# Altium integrated library Microchip Power Management Line Regulator.IntLib: 1169 symbols (part 23 of 31)
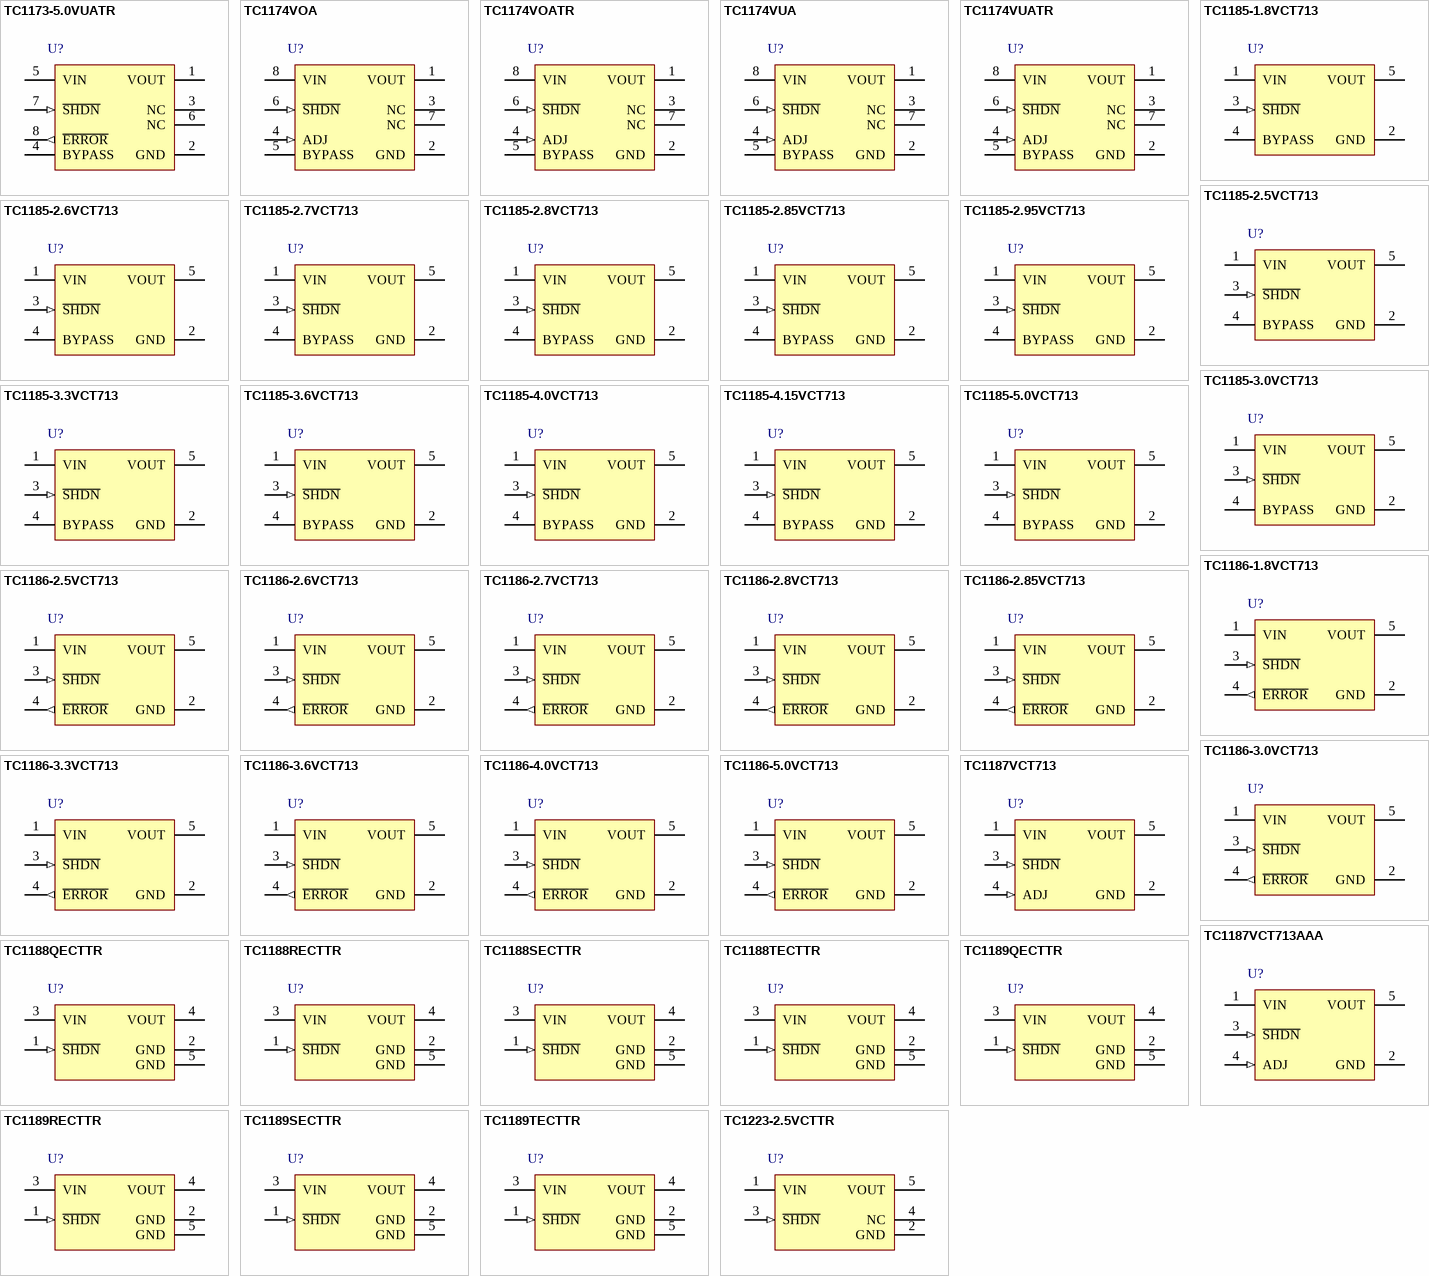
[diagram p51: symbols TC1173-5.0VUATR to TC1223-2.5VCTTR]

## TC1189QECTTR
designator U?
MAX8863/64 Pin Compatible, Low Dropout, 120 mA Linear Regulators, 5-Pin SOT-23, Industrial Temperature, Tape and Reel; Manufacturer: Microchip; PartNumber: TC1189QECTTR; DatasheetVersion: revB, 2002; PackageVersion: revBB, Aug-2009; PackageReference: SOT-23-CT5; PackageDescription: 5-Lead Plastic Small Outline Transistor (CT) [SOT-23]; Supplier 1: Digi-Key; Supplier Part Number 1: TC1189QECTTR-ND; Supplier 2: Mouser; Supplier Part Number 2: 579-TC1189QECTTR; Mounting Technology: Surface Mount; Code_IPC: SOT23-5; ComponentLink1Description: Manufacturer URL; ComponentLink1URL: http://www.microchip.com/; ComponentLink2Description: Datasheet; ComponentLink2URL: http://ww1.microchip.com/downloads/en/DeviceDoc/21364b.pdf; ComponentLink3Description: Package Specification; ComponentLink3URL: http://www.microchip.com/stellent/groups/techpub_sg/documents/packagingspec/en012702.pdf
footprint SOT-23-CT5_N (SOT23, 5-Leads, Body 2.9x1.6mm, Pitch 0.95mm, Lead Span 2.7mm, IPC Medium Density)
footprint SOT-23-CT5_L (SOT23, 5-Leads, Body 2.9x1.6mm, Pitch 0.95mm, Lead Span 2.7mm, IPC High Density)
footprint SOT-23-CT5_M (SOT23, 5-Leads, Body 2.9x1.6mm, Pitch 0.95mm, Lead Span 2.7mm, IPC Low Density)
pins: 1 ~{SHDN} (in), 2 GND (power), 3 VIN (power), 4 VOUT (power), 5 GND (power)

## TC1189RECTTR
designator U?
MAX8863/64 Pin Compatible, Low Dropout, 120 mA Linear Regulators, 5-Pin SOT-23, Industrial Temperature, Tape and Reel; Manufacturer: Microchip; PartNumber: TC1189RECTTR; DatasheetVersion: revB, 2002; PackageVersion: revBB, Aug-2009; PackageReference: SOT-23-CT5; PackageDescription: 5-Lead Plastic Small Outline Transistor (CT) [SOT-23]; Supplier 1: Digi-Key; Supplier Part Number 1: TC1189RECTTR-ND; Supplier 2: Mouser; Supplier Part Number 2: 579-TC1189RECTTR; Mounting Technology: Surface Mount; Code_IPC: SOT23-5; ComponentLink1Description: Manufacturer URL; ComponentLink1URL: http://www.microchip.com/; ComponentLink2Description: Datasheet; ComponentLink2URL: http://ww1.microchip.com/downloads/en/DeviceDoc/21364b.pdf; ComponentLink3Description: Package Specification; ComponentLink3URL: http://www.microchip.com/stellent/groups/techpub_sg/documents/packagingspec/en012702.pdf
footprint SOT-23-CT5_N (SOT23, 5-Leads, Body 2.9x1.6mm, Pitch 0.95mm, Lead Span 2.7mm, IPC Medium Density)
footprint SOT-23-CT5_L (SOT23, 5-Leads, Body 2.9x1.6mm, Pitch 0.95mm, Lead Span 2.7mm, IPC High Density)
footprint SOT-23-CT5_M (SOT23, 5-Leads, Body 2.9x1.6mm, Pitch 0.95mm, Lead Span 2.7mm, IPC Low Density)
pins: 1 ~{SHDN} (in), 2 GND (power), 3 VIN (power), 4 VOUT (power), 5 GND (power)

## TC1189SECTTR
designator U?
MAX8863/64 Pin Compatible, Low Dropout, 120 mA Linear Regulators, 5-Pin SOT-23, Industrial Temperature, Tape and Reel; Manufacturer: Microchip; PartNumber: TC1189SECTTR; DatasheetVersion: revB, 2002; PackageVersion: revBB, Aug-2009; PackageReference: SOT-23-CT5; PackageDescription: 5-Lead Plastic Small Outline Transistor (CT) [SOT-23]; Supplier 1: Digi-Key; Supplier Part Number 1: TC1189SECTTR-ND; Supplier 2: Mouser; Supplier Part Number 2: 579-TC1189SECTTR; Mounting Technology: Surface Mount; Code_IPC: SOT23-5; ComponentLink1Description: Manufacturer URL; ComponentLink1URL: http://www.microchip.com/; ComponentLink2Description: Datasheet; ComponentLink2URL: http://ww1.microchip.com/downloads/en/DeviceDoc/21364b.pdf; ComponentLink3Description: Package Specification; ComponentLink3URL: http://www.microchip.com/stellent/groups/techpub_sg/documents/packagingspec/en012702.pdf
footprint SOT-23-CT5_N (SOT23, 5-Leads, Body 2.9x1.6mm, Pitch 0.95mm, Lead Span 2.7mm, IPC Medium Density)
footprint SOT-23-CT5_L (SOT23, 5-Leads, Body 2.9x1.6mm, Pitch 0.95mm, Lead Span 2.7mm, IPC High Density)
footprint SOT-23-CT5_M (SOT23, 5-Leads, Body 2.9x1.6mm, Pitch 0.95mm, Lead Span 2.7mm, IPC Low Density)
pins: 1 ~{SHDN} (in), 2 GND (power), 3 VIN (power), 4 VOUT (power), 5 GND (power)

## TC1189TECTTR
designator U?
MAX8863/64 Pin Compatible, Low Dropout, 120 mA Linear Regulators, 5-Pin SOT-23, Industrial Temperature, Tape and Reel; Manufacturer: Microchip; PartNumber: TC1189TECTTR; DatasheetVersion: revB, 2002; PackageVersion: revBB, Aug-2009; PackageReference: SOT-23-CT5; PackageDescription: 5-Lead Plastic Small Outline Transistor (CT) [SOT-23]; Supplier 1: Digi-Key; Supplier Part Number 1: TC1189TECTTR-ND; Supplier 2: Mouser; Supplier Part Number 2: 579-TC1189TECTTR; Mounting Technology: Surface Mount; Code_IPC: SOT23-5; ComponentLink1Description: Manufacturer URL; ComponentLink1URL: http://www.microchip.com/; ComponentLink2Description: Datasheet; ComponentLink2URL: http://ww1.microchip.com/downloads/en/DeviceDoc/21364b.pdf; ComponentLink3Description: Package Specification; ComponentLink3URL: http://www.microchip.com/stellent/groups/techpub_sg/documents/packagingspec/en012702.pdf
footprint SOT-23-CT5_N (SOT23, 5-Leads, Body 2.9x1.6mm, Pitch 0.95mm, Lead Span 2.7mm, IPC Medium Density)
footprint SOT-23-CT5_L (SOT23, 5-Leads, Body 2.9x1.6mm, Pitch 0.95mm, Lead Span 2.7mm, IPC High Density)
footprint SOT-23-CT5_M (SOT23, 5-Leads, Body 2.9x1.6mm, Pitch 0.95mm, Lead Span 2.7mm, IPC Low Density)
pins: 1 ~{SHDN} (in), 2 GND (power), 3 VIN (power), 4 VOUT (power), 5 GND (power)

## TC1223-2.5VCTTR
designator U?
50mA and 100mA CMOS LDOs with Shutdown, 5-Pin SOT-23, Extended Temperature, Tape and Reel; Manufacturer: Microchip; PartNumber: TC1223-2.5VCTTR; DatasheetVersion: revB, 2002; PackageVersion: revBB, Aug-2009; PackageReference: SOT-23-CT5; PackageDescription: 5-Lead Plastic Small Outline Transistor (CT) [SOT-23]; Supplier 1: Digi-Key; Supplier Part Number 1: TC1223-2.5VCTTR-ND; Supplier 2: Mouser; Supplier Part Number 2: 579-TC1223-2.5VCTTR; Mounting Technology: Surface Mount; Code_IPC: SOT23-5; ComponentLink1Description: Manufacturer URL; ComponentLink1URL: http://www.microchip.com/; ComponentLink2Description: Datasheet; ComponentLink2URL: http://ww1.microchip.com/downloads/en/DeviceDoc/21368b.pdf; ComponentLink3Description: Package Specification; ComponentLink3URL: http://www.microchip.com/stellent/groups/techpub_sg/documents/packagingspec/en012702.pdf
footprint SOT-23-CT5_N (SOT23, 5-Leads, Body 2.9x1.6mm, Pitch 0.95mm, Lead Span 2.7mm, IPC Medium Density)
footprint SOT-23-CT5_L (SOT23, 5-Leads, Body 2.9x1.6mm, Pitch 0.95mm, Lead Span 2.7mm, IPC High Density)
footprint SOT-23-CT5_M (SOT23, 5-Leads, Body 2.9x1.6mm, Pitch 0.95mm, Lead Span 2.7mm, IPC Low Density)
pins: 1 VIN (power), 2 GND (power), 3 ~{SHDN} (in), 4 NC, 5 VOUT (power)

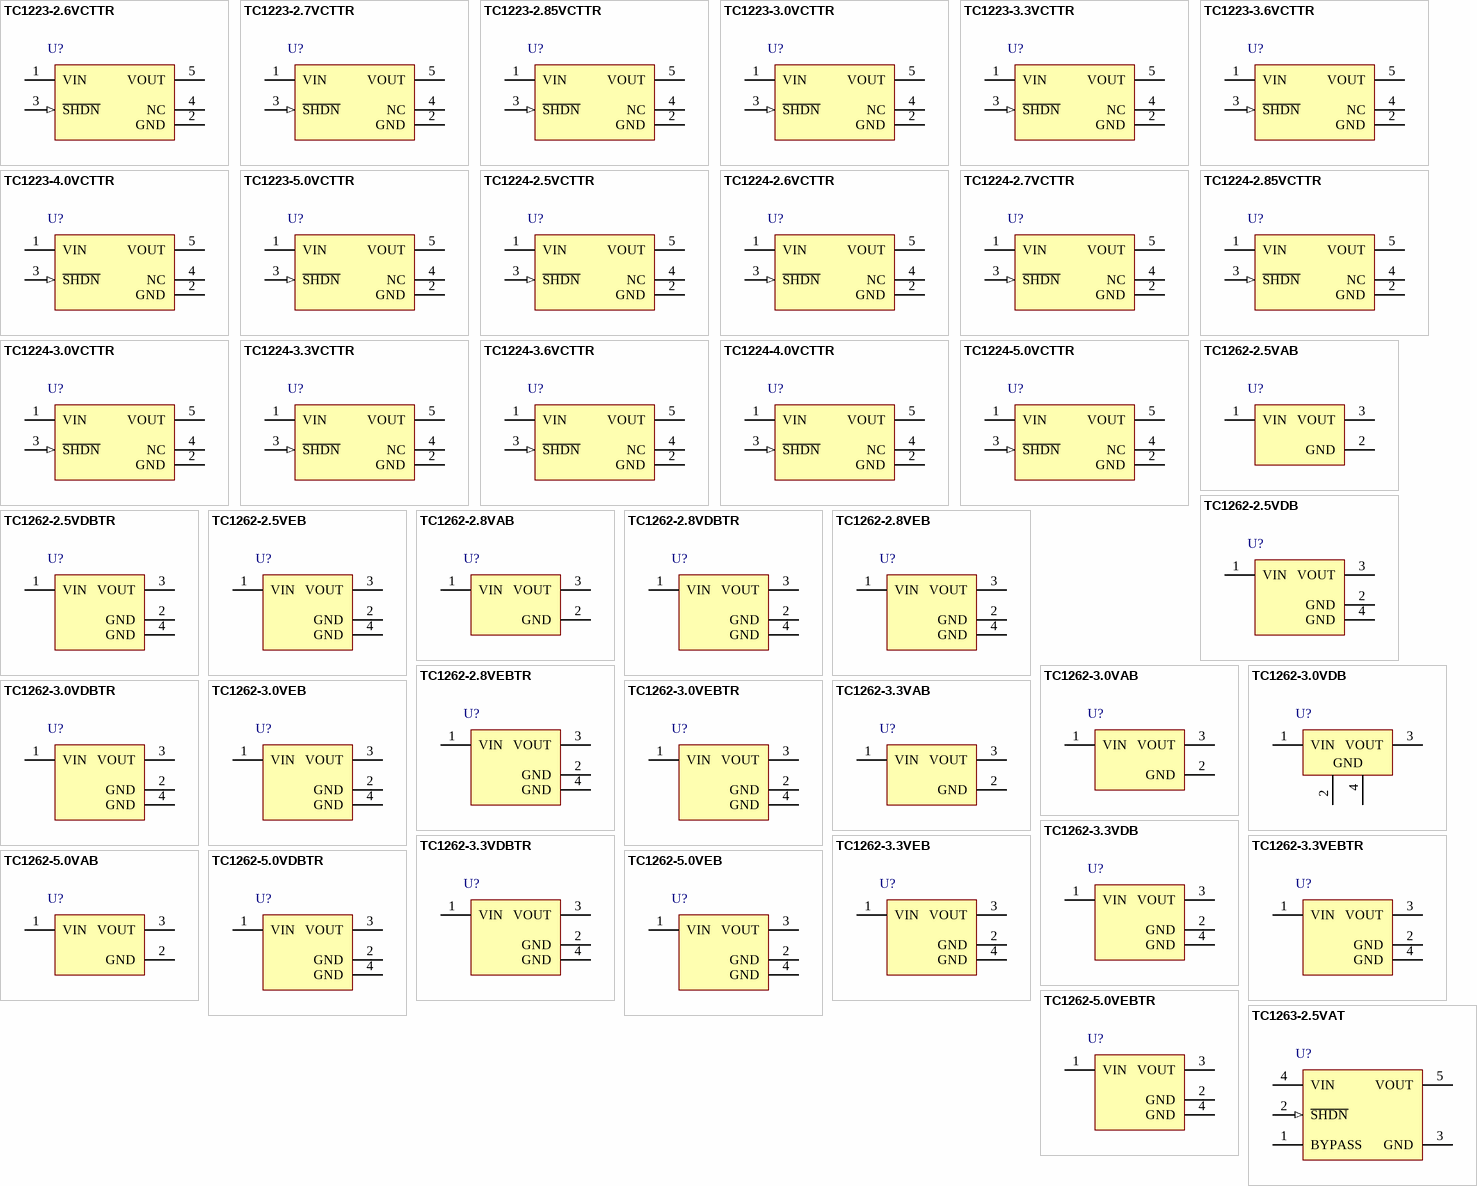
[diagram p21: symbols TC1223-2.6VCTTR to TC1263-2.5VAT]

## TC1223-2.6VCTTR
designator U?
50mA and 100mA CMOS LDOs with Shutdown, 5-Pin SOT-23, Extended Temperature, Tape and Reel; Manufacturer: Microchip; PartNumber: TC1223-2.6VCTTR; DatasheetVersion: revB, 2002; PackageVersion: revBB, Aug-2009; PackageReference: SOT-23-CT5; PackageDescription: 5-Lead Plastic Small Outline Transistor (CT) [SOT-23]; Supplier 1: Digi-Key; Supplier Part Number 1: TC1223-2.6VCTTR-ND; Supplier 2: Mouser; Supplier Part Number 2: 579-TC1223-2.6VCTTR; Mounting Technology: Surface Mount; Code_IPC: SOT23-5; ComponentLink1Description: Manufacturer URL; ComponentLink1URL: http://www.microchip.com/; ComponentLink2Description: Datasheet; ComponentLink2URL: http://ww1.microchip.com/downloads/en/DeviceDoc/21368b.pdf; ComponentLink3Description: Package Specification; ComponentLink3URL: http://www.microchip.com/stellent/groups/techpub_sg/documents/packagingspec/en012702.pdf
footprint SOT-23-CT5_N (SOT23, 5-Leads, Body 2.9x1.6mm, Pitch 0.95mm, Lead Span 2.7mm, IPC Medium Density)
footprint SOT-23-CT5_L (SOT23, 5-Leads, Body 2.9x1.6mm, Pitch 0.95mm, Lead Span 2.7mm, IPC High Density)
footprint SOT-23-CT5_M (SOT23, 5-Leads, Body 2.9x1.6mm, Pitch 0.95mm, Lead Span 2.7mm, IPC Low Density)
pins: 1 VIN (power), 2 GND (power), 3 ~{SHDN} (in), 4 NC, 5 VOUT (power)

## TC1223-2.7VCTTR
designator U?
50mA and 100mA CMOS LDOs with Shutdown, 5-Pin SOT-23, Extended Temperature, Tape and Reel; Manufacturer: Microchip; PartNumber: TC1223-2.7VCTTR; DatasheetVersion: revB, 2002; PackageVersion: revBB, Aug-2009; PackageReference: SOT-23-CT5; PackageDescription: 5-Lead Plastic Small Outline Transistor (CT) [SOT-23]; Supplier 1: Digi-Key; Supplier Part Number 1: TC1223-2.7VCTTR-ND; Supplier 2: Mouser; Supplier Part Number 2: 579-TC1223-2.7VCTTR; Mounting Technology: Surface Mount; Code_IPC: SOT23-5; ComponentLink1Description: Manufacturer URL; ComponentLink1URL: http://www.microchip.com/; ComponentLink2Description: Datasheet; ComponentLink2URL: http://ww1.microchip.com/downloads/en/DeviceDoc/21368b.pdf; ComponentLink3Description: Package Specification; ComponentLink3URL: http://www.microchip.com/stellent/groups/techpub_sg/documents/packagingspec/en012702.pdf
footprint SOT-23-CT5_N (SOT23, 5-Leads, Body 2.9x1.6mm, Pitch 0.95mm, Lead Span 2.7mm, IPC Medium Density)
footprint SOT-23-CT5_L (SOT23, 5-Leads, Body 2.9x1.6mm, Pitch 0.95mm, Lead Span 2.7mm, IPC High Density)
footprint SOT-23-CT5_M (SOT23, 5-Leads, Body 2.9x1.6mm, Pitch 0.95mm, Lead Span 2.7mm, IPC Low Density)
pins: 1 VIN (power), 2 GND (power), 3 ~{SHDN} (in), 4 NC, 5 VOUT (power)

## TC1223-2.85VCTTR
designator U?
50mA and 100mA CMOS LDOs with Shutdown, 5-Pin SOT-23, Extended Temperature, Tape and Reel; Manufacturer: Microchip; PartNumber: TC1223-2.85VCTTR; DatasheetVersion: revB, 2002; PackageVersion: revBB, Aug-2009; PackageReference: SOT-23-CT5; PackageDescription: 5-Lead Plastic Small Outline Transistor (CT) [SOT-23]; Supplier 1: Digi-Key; Supplier Part Number 1: TC1223-2.85VCTTR-ND; Supplier 2: Mouser; Supplier Part Number 2: 579-TC1223-2.85VCTTR; Mounting Technology: Surface Mount; Code_IPC: SOT23-5; ComponentLink1Description: Manufacturer URL; ComponentLink1URL: http://www.microchip.com/; ComponentLink2Description: Datasheet; ComponentLink2URL: http://ww1.microchip.com/downloads/en/DeviceDoc/21368b.pdf; ComponentLink3Description: Package Specification; ComponentLink3URL: http://www.microchip.com/stellent/groups/techpub_sg/documents/packagingspec/en012702.pdf
footprint SOT-23-CT5_N (SOT23, 5-Leads, Body 2.9x1.6mm, Pitch 0.95mm, Lead Span 2.7mm, IPC Medium Density)
footprint SOT-23-CT5_L (SOT23, 5-Leads, Body 2.9x1.6mm, Pitch 0.95mm, Lead Span 2.7mm, IPC High Density)
footprint SOT-23-CT5_M (SOT23, 5-Leads, Body 2.9x1.6mm, Pitch 0.95mm, Lead Span 2.7mm, IPC Low Density)
pins: 1 VIN (power), 2 GND (power), 3 ~{SHDN} (in), 4 NC, 5 VOUT (power)

## TC1223-3.0VCTTR
designator U?
50mA and 100mA CMOS LDOs with Shutdown, 5-Pin SOT-23, Extended Temperature, Tape and Reel; Manufacturer: Microchip; PartNumber: TC1223-3.0VCTTR; DatasheetVersion: revB, 2002; PackageVersion: revBB, Aug-2009; PackageReference: SOT-23-CT5; PackageDescription: 5-Lead Plastic Small Outline Transistor (CT) [SOT-23]; Supplier 1: Digi-Key; Supplier Part Number 1: TC1223-3.0VCTTR-ND; Supplier 2: Newark; Supplier Part Number 2: 92C5719; Supplier 3: Mouser; Supplier Part Number 3: 579-TC1223-3.0VCTTR; Mounting Technology: Surface Mount; Code_IPC: SOT23-5; ComponentLink1Description: Manufacturer URL; ComponentLink1URL: http://www.microchip.com/; ComponentLink2Description: Datasheet; ComponentLink2URL: http://ww1.microchip.com/downloads/en/DeviceDoc/21368b.pdf; ComponentLink3Description: Package Specification; ComponentLink3URL: http://www.microchip.com/stellent/groups/techpub_sg/documents/packagingspec/en012702.pdf
footprint SOT-23-CT5_N (SOT23, 5-Leads, Body 2.9x1.6mm, Pitch 0.95mm, Lead Span 2.7mm, IPC Medium Density)
footprint SOT-23-CT5_L (SOT23, 5-Leads, Body 2.9x1.6mm, Pitch 0.95mm, Lead Span 2.7mm, IPC High Density)
footprint SOT-23-CT5_M (SOT23, 5-Leads, Body 2.9x1.6mm, Pitch 0.95mm, Lead Span 2.7mm, IPC Low Density)
pins: 1 VIN (power), 2 GND (power), 3 ~{SHDN} (in), 4 NC, 5 VOUT (power)

## TC1223-3.3VCTTR
designator U?
50mA and 100mA CMOS LDOs with Shutdown, 5-Pin SOT-23, Extended Temperature, Tape and Reel; Manufacturer: Microchip; PartNumber: TC1223-3.3VCTTR; DatasheetVersion: revB, 2002; PackageVersion: revBB, Aug-2009; PackageReference: SOT-23-CT5; PackageDescription: 5-Lead Plastic Small Outline Transistor (CT) [SOT-23]; Supplier 1: Digi-Key; Supplier Part Number 1: TC1223-3.3VCTTR-ND; Supplier 2: Mouser; Supplier Part Number 2: 579-TC1223-3.3VCTTR; Mounting Technology: Surface Mount; Code_IPC: SOT23-5; ComponentLink1Description: Manufacturer URL; ComponentLink1URL: http://www.microchip.com/; ComponentLink2Description: Datasheet; ComponentLink2URL: http://ww1.microchip.com/downloads/en/DeviceDoc/21368b.pdf; ComponentLink3Description: Package Specification; ComponentLink3URL: http://www.microchip.com/stellent/groups/techpub_sg/documents/packagingspec/en012702.pdf
footprint SOT-23-CT5_N (SOT23, 5-Leads, Body 2.9x1.6mm, Pitch 0.95mm, Lead Span 2.7mm, IPC Medium Density)
footprint SOT-23-CT5_L (SOT23, 5-Leads, Body 2.9x1.6mm, Pitch 0.95mm, Lead Span 2.7mm, IPC High Density)
footprint SOT-23-CT5_M (SOT23, 5-Leads, Body 2.9x1.6mm, Pitch 0.95mm, Lead Span 2.7mm, IPC Low Density)
pins: 1 VIN (power), 2 GND (power), 3 ~{SHDN} (in), 4 NC, 5 VOUT (power)

## TC1223-3.6VCTTR
designator U?
50mA and 100mA CMOS LDOs with Shutdown, 5-Pin SOT-23, Extended Temperature, Tape and Reel; Manufacturer: Microchip; PartNumber: TC1223-3.6VCTTR; DatasheetVersion: revB, 2002; PackageVersion: revBB, Aug-2009; PackageReference: SOT-23-CT5; PackageDescription: 5-Lead Plastic Small Outline Transistor (CT) [SOT-23]; Supplier 1: Digi-Key; Supplier Part Number 1: TC1223-3.6VCTTR-ND; Supplier 2: Mouser; Supplier Part Number 2: 579-TC1223-3.6VCTTR; Mounting Technology: Surface Mount; Code_IPC: SOT23-5; ComponentLink1Description: Manufacturer URL; ComponentLink1URL: http://www.microchip.com/; ComponentLink2Description: Datasheet; ComponentLink2URL: http://ww1.microchip.com/downloads/en/DeviceDoc/21368b.pdf; ComponentLink3Description: Package Specification; ComponentLink3URL: http://www.microchip.com/stellent/groups/techpub_sg/documents/packagingspec/en012702.pdf
footprint SOT-23-CT5_N (SOT23, 5-Leads, Body 2.9x1.6mm, Pitch 0.95mm, Lead Span 2.7mm, IPC Medium Density)
footprint SOT-23-CT5_L (SOT23, 5-Leads, Body 2.9x1.6mm, Pitch 0.95mm, Lead Span 2.7mm, IPC High Density)
footprint SOT-23-CT5_M (SOT23, 5-Leads, Body 2.9x1.6mm, Pitch 0.95mm, Lead Span 2.7mm, IPC Low Density)
pins: 1 VIN (power), 2 GND (power), 3 ~{SHDN} (in), 4 NC, 5 VOUT (power)

## TC1223-4.0VCTTR
designator U?
50mA and 100mA CMOS LDOs with Shutdown, 5-Pin SOT-23, Extended Temperature, Tape and Reel; Manufacturer: Microchip; PartNumber: TC1223-4.0VCTTR; DatasheetVersion: revB, 2002; PackageVersion: revBB, Aug-2009; PackageReference: SOT-23-CT5; PackageDescription: 5-Lead Plastic Small Outline Transistor (CT) [SOT-23]; Supplier 1: Digi-Key; Supplier Part Number 1: TC1223-4.0VCTTR-ND; Supplier 2: Mouser; Supplier Part Number 2: 579-TC1223-4.0VCTTR; Mounting Technology: Surface Mount; Code_IPC: SOT23-5; ComponentLink1Description: Manufacturer URL; ComponentLink1URL: http://www.microchip.com/; ComponentLink2Description: Datasheet; ComponentLink2URL: http://ww1.microchip.com/downloads/en/DeviceDoc/21368b.pdf; ComponentLink3Description: Package Specification; ComponentLink3URL: http://www.microchip.com/stellent/groups/techpub_sg/documents/packagingspec/en012702.pdf
footprint SOT-23-CT5_N (SOT23, 5-Leads, Body 2.9x1.6mm, Pitch 0.95mm, Lead Span 2.7mm, IPC Medium Density)
footprint SOT-23-CT5_L (SOT23, 5-Leads, Body 2.9x1.6mm, Pitch 0.95mm, Lead Span 2.7mm, IPC High Density)
footprint SOT-23-CT5_M (SOT23, 5-Leads, Body 2.9x1.6mm, Pitch 0.95mm, Lead Span 2.7mm, IPC Low Density)
pins: 1 VIN (power), 2 GND (power), 3 ~{SHDN} (in), 4 NC, 5 VOUT (power)

## TC1223-5.0VCTTR
designator U?
50mA and 100mA CMOS LDOs with Shutdown, 5-Pin SOT-23, Extended Temperature, Tape and Reel; Manufacturer: Microchip; PartNumber: TC1223-5.0VCTTR; DatasheetVersion: revB, 2002; PackageVersion: revBB, Aug-2009; PackageReference: SOT-23-CT5; PackageDescription: 5-Lead Plastic Small Outline Transistor (CT) [SOT-23]; Supplier 1: Digi-Key; Supplier Part Number 1: TC1223-5.0VCTTR-ND; Supplier 2: Mouser; Supplier Part Number 2: 579-TC1223-5.0VCTTR; Mounting Technology: Surface Mount; Code_IPC: SOT23-5; ComponentLink1Description: Manufacturer URL; ComponentLink1URL: http://www.microchip.com/; ComponentLink2Description: Datasheet; ComponentLink2URL: http://ww1.microchip.com/downloads/en/DeviceDoc/21368b.pdf; ComponentLink3Description: Package Specification; ComponentLink3URL: http://www.microchip.com/stellent/groups/techpub_sg/documents/packagingspec/en012702.pdf
footprint SOT-23-CT5_N (SOT23, 5-Leads, Body 2.9x1.6mm, Pitch 0.95mm, Lead Span 2.7mm, IPC Medium Density)
footprint SOT-23-CT5_L (SOT23, 5-Leads, Body 2.9x1.6mm, Pitch 0.95mm, Lead Span 2.7mm, IPC High Density)
footprint SOT-23-CT5_M (SOT23, 5-Leads, Body 2.9x1.6mm, Pitch 0.95mm, Lead Span 2.7mm, IPC Low Density)
pins: 1 VIN (power), 2 GND (power), 3 ~{SHDN} (in), 4 NC, 5 VOUT (power)

## TC1224-2.5VCTTR
designator U?
50mA and 100mA CMOS LDOs with Shutdown, 5-Pin SOT-23, Extended Temperature, Tape and Reel; Manufacturer: Microchip; PartNumber: TC1224-2.5VCTTR; DatasheetVersion: revB, 2002; PackageVersion: revBB, Aug-2009; PackageReference: SOT-23-CT5; PackageDescription: 5-Lead Plastic Small Outline Transistor (CT) [SOT-23]; Supplier 1: Digi-Key; Supplier Part Number 1: TC1224-2.5VCTTR-ND; Supplier 2: Mouser; Supplier Part Number 2: 579-TC1224-2.5VCTTR; Mounting Technology: Surface Mount; Code_IPC: SOT23-5; ComponentLink1Description: Manufacturer URL; ComponentLink1URL: http://www.microchip.com/; ComponentLink2Description: Datasheet; ComponentLink2URL: http://ww1.microchip.com/downloads/en/DeviceDoc/21368b.pdf; ComponentLink3Description: Package Specification; ComponentLink3URL: http://www.microchip.com/stellent/groups/techpub_sg/documents/packagingspec/en012702.pdf
footprint SOT-23-CT5_N (SOT23, 5-Leads, Body 2.9x1.6mm, Pitch 0.95mm, Lead Span 2.7mm, IPC Medium Density)
footprint SOT-23-CT5_L (SOT23, 5-Leads, Body 2.9x1.6mm, Pitch 0.95mm, Lead Span 2.7mm, IPC High Density)
footprint SOT-23-CT5_M (SOT23, 5-Leads, Body 2.9x1.6mm, Pitch 0.95mm, Lead Span 2.7mm, IPC Low Density)
pins: 1 VIN (power), 2 GND (power), 3 ~{SHDN} (in), 4 NC, 5 VOUT (power)

## TC1224-2.6VCTTR
designator U?
50mA and 100mA CMOS LDOs with Shutdown, 5-Pin SOT-23, Extended Temperature, Tape and Reel; Manufacturer: Microchip; PartNumber: TC1224-2.6VCTTR; DatasheetVersion: revB, 2002; PackageVersion: revBB, Aug-2009; PackageReference: SOT-23-CT5; PackageDescription: 5-Lead Plastic Small Outline Transistor (CT) [SOT-23]; Supplier 1: Digi-Key; Supplier Part Number 1: TC1224-2.6VCTTR-ND; Supplier 2: Mouser; Supplier Part Number 2: 579-TC1224-2.6VCTTR; Mounting Technology: Surface Mount; Code_IPC: SOT23-5; ComponentLink1Description: Manufacturer URL; ComponentLink1URL: http://www.microchip.com/; ComponentLink2Description: Datasheet; ComponentLink2URL: http://ww1.microchip.com/downloads/en/DeviceDoc/21368b.pdf; ComponentLink3Description: Package Specification; ComponentLink3URL: http://www.microchip.com/stellent/groups/techpub_sg/documents/packagingspec/en012702.pdf
footprint SOT-23-CT5_N (SOT23, 5-Leads, Body 2.9x1.6mm, Pitch 0.95mm, Lead Span 2.7mm, IPC Medium Density)
footprint SOT-23-CT5_L (SOT23, 5-Leads, Body 2.9x1.6mm, Pitch 0.95mm, Lead Span 2.7mm, IPC High Density)
footprint SOT-23-CT5_M (SOT23, 5-Leads, Body 2.9x1.6mm, Pitch 0.95mm, Lead Span 2.7mm, IPC Low Density)
pins: 1 VIN (power), 2 GND (power), 3 ~{SHDN} (in), 4 NC, 5 VOUT (power)

## TC1224-2.7VCTTR
designator U?
50mA and 100mA CMOS LDOs with Shutdown, 5-Pin SOT-23, Extended Temperature, Tape and Reel; Manufacturer: Microchip; PartNumber: TC1224-2.7VCTTR; DatasheetVersion: revB, 2002; PackageVersion: revBB, Aug-2009; PackageReference: SOT-23-CT5; PackageDescription: 5-Lead Plastic Small Outline Transistor (CT) [SOT-23]; Supplier 1: Digi-Key; Supplier Part Number 1: TC1224-2.7VCTTR-ND; Supplier 2: Mouser; Supplier Part Number 2: 579-TC1224-2.7VCTTR; Mounting Technology: Surface Mount; Code_IPC: SOT23-5; ComponentLink1Description: Manufacturer URL; ComponentLink1URL: http://www.microchip.com/; ComponentLink2Description: Datasheet; ComponentLink2URL: http://ww1.microchip.com/downloads/en/DeviceDoc/21368b.pdf; ComponentLink3Description: Package Specification; ComponentLink3URL: http://www.microchip.com/stellent/groups/techpub_sg/documents/packagingspec/en012702.pdf
footprint SOT-23-CT5_N (SOT23, 5-Leads, Body 2.9x1.6mm, Pitch 0.95mm, Lead Span 2.7mm, IPC Medium Density)
footprint SOT-23-CT5_L (SOT23, 5-Leads, Body 2.9x1.6mm, Pitch 0.95mm, Lead Span 2.7mm, IPC High Density)
footprint SOT-23-CT5_M (SOT23, 5-Leads, Body 2.9x1.6mm, Pitch 0.95mm, Lead Span 2.7mm, IPC Low Density)
pins: 1 VIN (power), 2 GND (power), 3 ~{SHDN} (in), 4 NC, 5 VOUT (power)

## TC1224-2.85VCTTR
designator U?
50mA and 100mA CMOS LDOs with Shutdown, 5-Pin SOT-23, Extended Temperature, Tape and Reel; Manufacturer: Microchip; PartNumber: TC1224-2.85VCTTR; DatasheetVersion: revB, 2002; PackageVersion: revBB, Aug-2009; PackageReference: SOT-23-CT5; PackageDescription: 5-Lead Plastic Small Outline Transistor (CT) [SOT-23]; Supplier 1: Digi-Key; Supplier Part Number 1: TC1224-2.85VCTTR-ND; Supplier 2: Mouser; Supplier Part Number 2: 579-TC1224-2.85VCTTR; Mounting Technology: Surface Mount; Code_IPC: SOT23-5; ComponentLink1Description: Manufacturer URL; ComponentLink1URL: http://www.microchip.com/; ComponentLink2Description: Datasheet; ComponentLink2URL: http://ww1.microchip.com/downloads/en/DeviceDoc/21368b.pdf; ComponentLink3Description: Package Specification; ComponentLink3URL: http://www.microchip.com/stellent/groups/techpub_sg/documents/packagingspec/en012702.pdf
footprint SOT-23-CT5_N (SOT23, 5-Leads, Body 2.9x1.6mm, Pitch 0.95mm, Lead Span 2.7mm, IPC Medium Density)
footprint SOT-23-CT5_L (SOT23, 5-Leads, Body 2.9x1.6mm, Pitch 0.95mm, Lead Span 2.7mm, IPC High Density)
footprint SOT-23-CT5_M (SOT23, 5-Leads, Body 2.9x1.6mm, Pitch 0.95mm, Lead Span 2.7mm, IPC Low Density)
pins: 1 VIN (power), 2 GND (power), 3 ~{SHDN} (in), 4 NC, 5 VOUT (power)

## TC1224-3.0VCTTR
designator U?
50mA and 100mA CMOS LDOs with Shutdown, 5-Pin SOT-23, Extended Temperature, Tape and Reel; Manufacturer: Microchip; PartNumber: TC1224-3.0VCTTR; DatasheetVersion: revB, 2002; PackageVersion: revBB, Aug-2009; PackageReference: SOT-23-CT5; PackageDescription: 5-Lead Plastic Small Outline Transistor (CT) [SOT-23]; Supplier 1: Digi-Key; Supplier Part Number 1: TC1224-3.0VCTTR-ND; Supplier 2: Mouser; Supplier Part Number 2: 579-TC1224-3.0VCTTR; Mounting Technology: Surface Mount; Code_IPC: SOT23-5; ComponentLink1Description: Manufacturer URL; ComponentLink1URL: http://www.microchip.com/; ComponentLink2Description: Datasheet; ComponentLink2URL: http://ww1.microchip.com/downloads/en/DeviceDoc/21368b.pdf; ComponentLink3Description: Package Specification; ComponentLink3URL: http://www.microchip.com/stellent/groups/techpub_sg/documents/packagingspec/en012702.pdf
footprint SOT-23-CT5_N (SOT23, 5-Leads, Body 2.9x1.6mm, Pitch 0.95mm, Lead Span 2.7mm, IPC Medium Density)
footprint SOT-23-CT5_L (SOT23, 5-Leads, Body 2.9x1.6mm, Pitch 0.95mm, Lead Span 2.7mm, IPC High Density)
footprint SOT-23-CT5_M (SOT23, 5-Leads, Body 2.9x1.6mm, Pitch 0.95mm, Lead Span 2.7mm, IPC Low Density)
pins: 1 VIN (power), 2 GND (power), 3 ~{SHDN} (in), 4 NC, 5 VOUT (power)

## TC1224-3.3VCTTR
designator U?
50mA and 100mA CMOS LDOs with Shutdown, 5-Pin SOT-23, Extended Temperature, Tape and Reel; Manufacturer: Microchip; PartNumber: TC1224-3.3VCTTR; DatasheetVersion: revB, 2002; PackageVersion: revBB, Aug-2009; PackageReference: SOT-23-CT5; PackageDescription: 5-Lead Plastic Small Outline Transistor (CT) [SOT-23]; Supplier 1: Digi-Key; Supplier Part Number 1: TC1224-3.3VCTTR-ND; Supplier 2: Mouser; Supplier Part Number 2: 579-TC1224-3.3VCTTR; Mounting Technology: Surface Mount; Code_IPC: SOT23-5; ComponentLink1Description: Manufacturer URL; ComponentLink1URL: http://www.microchip.com/; ComponentLink2Description: Datasheet; ComponentLink2URL: http://ww1.microchip.com/downloads/en/DeviceDoc/21368b.pdf; ComponentLink3Description: Package Specification; ComponentLink3URL: http://www.microchip.com/stellent/groups/techpub_sg/documents/packagingspec/en012702.pdf
footprint SOT-23-CT5_N (SOT23, 5-Leads, Body 2.9x1.6mm, Pitch 0.95mm, Lead Span 2.7mm, IPC Medium Density)
footprint SOT-23-CT5_L (SOT23, 5-Leads, Body 2.9x1.6mm, Pitch 0.95mm, Lead Span 2.7mm, IPC High Density)
footprint SOT-23-CT5_M (SOT23, 5-Leads, Body 2.9x1.6mm, Pitch 0.95mm, Lead Span 2.7mm, IPC Low Density)
pins: 1 VIN (power), 2 GND (power), 3 ~{SHDN} (in), 4 NC, 5 VOUT (power)

## TC1224-3.6VCTTR
designator U?
50mA and 100mA CMOS LDOs with Shutdown, 5-Pin SOT-23, Extended Temperature, Tape and Reel; Manufacturer: Microchip; PartNumber: TC1224-3.6VCTTR; DatasheetVersion: revB, 2002; PackageVersion: revBB, Aug-2009; PackageReference: SOT-23-CT5; PackageDescription: 5-Lead Plastic Small Outline Transistor (CT) [SOT-23]; Supplier 1: Digi-Key; Supplier Part Number 1: TC1224-3.6VCTTR-ND; Supplier 2: Mouser; Supplier Part Number 2: 579-TC1224-3.6VCTTR; Mounting Technology: Surface Mount; Code_IPC: SOT23-5; ComponentLink1Description: Manufacturer URL; ComponentLink1URL: http://www.microchip.com/; ComponentLink2Description: Datasheet; ComponentLink2URL: http://ww1.microchip.com/downloads/en/DeviceDoc/21368b.pdf; ComponentLink3Description: Package Specification; ComponentLink3URL: http://www.microchip.com/stellent/groups/techpub_sg/documents/packagingspec/en012702.pdf
footprint SOT-23-CT5_N (SOT23, 5-Leads, Body 2.9x1.6mm, Pitch 0.95mm, Lead Span 2.7mm, IPC Medium Density)
footprint SOT-23-CT5_L (SOT23, 5-Leads, Body 2.9x1.6mm, Pitch 0.95mm, Lead Span 2.7mm, IPC High Density)
footprint SOT-23-CT5_M (SOT23, 5-Leads, Body 2.9x1.6mm, Pitch 0.95mm, Lead Span 2.7mm, IPC Low Density)
pins: 1 VIN (power), 2 GND (power), 3 ~{SHDN} (in), 4 NC, 5 VOUT (power)

## TC1224-4.0VCTTR
designator U?
50mA and 100mA CMOS LDOs with Shutdown, 5-Pin SOT-23, Extended Temperature, Tape and Reel; Manufacturer: Microchip; PartNumber: TC1224-4.0VCTTR; DatasheetVersion: revB, 2002; PackageVersion: revBB, Aug-2009; PackageReference: SOT-23-CT5; PackageDescription: 5-Lead Plastic Small Outline Transistor (CT) [SOT-23]; Supplier 1: Digi-Key; Supplier Part Number 1: TC1224-4.0VCTTR-ND; Supplier 2: Mouser; Supplier Part Number 2: 579-TC1224-4.0VCTTR; Mounting Technology: Surface Mount; Code_IPC: SOT23-5; ComponentLink1Description: Manufacturer URL; ComponentLink1URL: http://www.microchip.com/; ComponentLink2Description: Datasheet; ComponentLink2URL: http://ww1.microchip.com/downloads/en/DeviceDoc/21368b.pdf; ComponentLink3Description: Package Specification; ComponentLink3URL: http://www.microchip.com/stellent/groups/techpub_sg/documents/packagingspec/en012702.pdf
footprint SOT-23-CT5_N (SOT23, 5-Leads, Body 2.9x1.6mm, Pitch 0.95mm, Lead Span 2.7mm, IPC Medium Density)
footprint SOT-23-CT5_L (SOT23, 5-Leads, Body 2.9x1.6mm, Pitch 0.95mm, Lead Span 2.7mm, IPC High Density)
footprint SOT-23-CT5_M (SOT23, 5-Leads, Body 2.9x1.6mm, Pitch 0.95mm, Lead Span 2.7mm, IPC Low Density)
pins: 1 VIN (power), 2 GND (power), 3 ~{SHDN} (in), 4 NC, 5 VOUT (power)

## TC1224-5.0VCTTR
designator U?
50mA and 100mA CMOS LDOs with Shutdown, 5-Pin SOT-23, Extended Temperature, Tape and Reel; Manufacturer: Microchip; PartNumber: TC1224-5.0VCTTR; DatasheetVersion: revB, 2002; PackageVersion: revBB, Aug-2009; PackageReference: SOT-23-CT5; PackageDescription: 5-Lead Plastic Small Outline Transistor (CT) [SOT-23]; Supplier 1: Digi-Key; Supplier Part Number 1: TC1224-5.0VCTTR-ND; Supplier 2: Mouser; Supplier Part Number 2: 579-TC1224-5.0VCTTR; Mounting Technology: Surface Mount; Code_IPC: SOT23-5; ComponentLink1Description: Manufacturer URL; ComponentLink1URL: http://www.microchip.com/; ComponentLink2Description: Datasheet; ComponentLink2URL: http://ww1.microchip.com/downloads/en/DeviceDoc/21368b.pdf; ComponentLink3Description: Package Specification; ComponentLink3URL: http://www.microchip.com/stellent/groups/techpub_sg/documents/packagingspec/en012702.pdf
footprint SOT-23-CT5_N (SOT23, 5-Leads, Body 2.9x1.6mm, Pitch 0.95mm, Lead Span 2.7mm, IPC Medium Density)
footprint SOT-23-CT5_L (SOT23, 5-Leads, Body 2.9x1.6mm, Pitch 0.95mm, Lead Span 2.7mm, IPC High Density)
footprint SOT-23-CT5_M (SOT23, 5-Leads, Body 2.9x1.6mm, Pitch 0.95mm, Lead Span 2.7mm, IPC Low Density)
pins: 1 VIN (power), 2 GND (power), 3 ~{SHDN} (in), 4 NC, 5 VOUT (power)

## TC1262-2.5VAB
designator U?
500mA Fixed Output CMOS LDO, 3-Pin TO-220, Extended Temperature; Manufacturer: Microchip; PartNumber: TC1262-2.5VAB; DatasheetVersion: revB, 2002; PackageVersion: revBB, Aug-2009; PackageReference: TO-220-AB3; PackageDescription: 3-Lead Plastic Transistor Outline (AB) [TO-220]; Supplier 1: Digi-Key; Supplier Part Number 1: TC1262-2.5VAB-ND; Supplier 2: Farnell; Supplier Part Number 2: 1852178; Supplier 3: Newark; Supplier Part Number 3: 92C5746; Supplier 4: Mouser; Supplier Part Number 4: 579-TC1262-2.5VAB; Mounting Technology: Through Hole; ComponentLink1Description: Manufacturer URL; ComponentLink1URL: http://www.microchip.com/; ComponentLink2Description: Datasheet; ComponentLink2URL: http://ww1.microchip.com/downloads/en/DeviceDoc/21373b.pdf; ComponentLink3Description: Package Specification; ComponentLink3URL: http://www.microchip.com/stellent/groups/techpub_sg/documents/packagingspec/en012702.pdf
footprint TO-220-AB3 (TO, Thru-Hole, Vertical, Heatsink Mounted; 3 In-Line Leads; Pitch 2.54 mm)
pins: 1 VIN (power), 2 GND (power), 3 VOUT (power)

## TC1262-2.5VDB
designator U?
500mA Fixed Output CMOS LDO, 3-Pin SOT-223, Extended Temperature; Manufacturer: Microchip; PartNumber: TC1262-2.5VDB; DatasheetVersion: revB, 2002; PackageVersion: revBB, Aug-2009; PackageReference: SOT-223-DB3; PackageDescription: 3-Lead Plastic Small Outline Transistor (DB) [SOT-223]; Supplier 1: Digi-Key; Supplier Part Number 1: TC1262-2.5VDB-ND; Supplier 2: Farnell; Supplier Part Number 2: 1852179; Supplier 3: Newark; Supplier Part Number 3: 69K0481; Supplier 4: Mouser; Supplier Part Number 4: 579-TC1262-2.5VDB; Mounting Technology: Surface Mount; ComponentLink1Description: Manufacturer URL; ComponentLink1URL: http://www.microchip.com/; ComponentLink2Description: Datasheet; ComponentLink2URL: http://ww1.microchip.com/downloads/en/DeviceDoc/21373b.pdf; ComponentLink3Description: Package Specification; ComponentLink3URL: http://www.microchip.com/stellent/groups/techpub_sg/documents/packagingspec/en012702.pdf
footprint SOT-223-DB3_N (SOT223, 4-Leads, Body 6.5x3.5mm, Pitch 2.3mm, Lead Span 7mm, IPC Medium Density)
footprint SOT-223-DB3_L (SOT223, 4-Leads, Body 6.5x3.5mm, Pitch 2.3mm, Lead Span 7mm, IPC High Density)
footprint SOT-223-DB3_M (SOT223, 4-Leads, Body 6.5x3.5mm, Pitch 2.3mm, Lead Span 7mm, IPC Low Density)
pins: 1 VIN (power), 2 GND (power), 3 VOUT (power), 4 GND (power)

## TC1262-2.5VDBTR
designator U?
500mA Fixed Output CMOS LDO, 3-Pin SOT-223, Extended Temperature, Tape and Reel; Manufacturer: Microchip; PartNumber: TC1262-2.5VDBTR; DatasheetVersion: revB, 2002; PackageVersion: revBB, Aug-2009; PackageReference: SOT-223-DB3; PackageDescription: 3-Lead Plastic Small Outline Transistor (DB) [SOT-223]; Supplier 1: Digi-Key; Supplier Part Number 1: TC1262-2.5VDBTR-ND; Supplier 2: Digi-Key; Supplier Part Number 2: TC1262-2.5VDBCT-ND; Supplier 3: Digi-Key; Supplier Part Number 3: TC1262-2.5VDBDKR-ND; Supplier 4: Newark; Supplier Part Number 4: 92C5747; Supplier 5: Mouser; Supplier Part Number 5: 579-TC1262-2.5VDBTR; Mounting Technology: Surface Mount; ComponentLink1Description: Manufacturer URL; ComponentLink1URL: http://www.microchip.com/; ComponentLink2Description: Datasheet; ComponentLink2URL: http://ww1.microchip.com/downloads/en/DeviceDoc/21373b.pdf; ComponentLink3Description: Package Specification; ComponentLink3URL: http://www.microchip.com/stellent/groups/techpub_sg/documents/packagingspec/en012702.pdf
footprint SOT-223-DB3_N (SOT223, 4-Leads, Body 6.5x3.5mm, Pitch 2.3mm, Lead Span 7mm, IPC Medium Density)
footprint SOT-223-DB3_L (SOT223, 4-Leads, Body 6.5x3.5mm, Pitch 2.3mm, Lead Span 7mm, IPC High Density)
footprint SOT-223-DB3_M (SOT223, 4-Leads, Body 6.5x3.5mm, Pitch 2.3mm, Lead Span 7mm, IPC Low Density)
pins: 1 VIN (power), 2 GND (power), 3 VOUT (power), 4 GND (power)

## TC1262-2.5VEB
designator U?
500mA Fixed Output CMOS LDO, 3-Pin DDPAK, Extended Temperature; Manufacturer: Microchip; PartNumber: TC1262-2.5VEB; DatasheetVersion: revB, 2002; PackageVersion: revBB, Aug-2009; PackageReference: DDPAK-EB3; PackageDescription: 3-Lead Plastic (EB) [DDPAK]; Mounting Technology: Surface Mount; ComponentLink1Description: Manufacturer URL; ComponentLink1URL: http://www.microchip.com/; ComponentLink2Description: Datasheet; ComponentLink2URL: http://ww1.microchip.com/downloads/en/DeviceDoc/21373b.pdf; ComponentLink3Description: Package Specification; ComponentLink3URL: http://www.microchip.com/stellent/groups/techpub_sg/documents/packagingspec/en012702.pdf
footprint DDPAK-EB3_N (D2-PAK, 4-Leads, Body 9x10.2mm, Pitch 2.54mm, Lead Span 14.9mm, IPC Medium Density)
footprint DDPAK-EB3_L (D2-PAK, 4-Leads, Body 9x10.2mm, Pitch 2.54mm, Lead Span 14.9mm, IPC High Density)
footprint DDPAK-EB3_M (D2-PAK, 4-Leads, Body 9x10.2mm, Pitch 2.54mm, Lead Span 14.9mm, IPC Low Density)
pins: 1 VIN (power), 2 GND (power), 3 VOUT (power), 4 GND (power)

## TC1262-2.8VAB
designator U?
500mA Fixed Output CMOS LDO, 3-Pin TO-220, Extended Temperature; Manufacturer: Microchip; PartNumber: TC1262-2.8VAB; DatasheetVersion: revB, 2002; PackageVersion: revBB, Aug-2009; PackageReference: TO-220-AB3; PackageDescription: 3-Lead Plastic Transistor Outline (AB) [TO-220]; Supplier 1: Digi-Key; Supplier Part Number 1: TC1262-2.8VAB-ND; Supplier 2: Mouser; Supplier Part Number 2: 579-TC1262-2.8VAB; Mounting Technology: Through Hole; ComponentLink1Description: Manufacturer URL; ComponentLink1URL: http://www.microchip.com/; ComponentLink2Description: Datasheet; ComponentLink2URL: http://ww1.microchip.com/downloads/en/DeviceDoc/21373b.pdf; ComponentLink3Description: Package Specification; ComponentLink3URL: http://www.microchip.com/stellent/groups/techpub_sg/documents/packagingspec/en012702.pdf
footprint TO-220-AB3 (TO, Thru-Hole, Vertical, Heatsink Mounted; 3 In-Line Leads; Pitch 2.54 mm)
pins: 1 VIN (power), 2 GND (power), 3 VOUT (power)

## TC1262-2.8VDBTR
designator U?
500mA Fixed Output CMOS LDO, 3-Pin SOT-223, Extended Temperature, Tape and Reel; Manufacturer: Microchip; PartNumber: TC1262-2.8VDBTR; DatasheetVersion: revB, 2002; PackageVersion: revBB, Aug-2009; PackageReference: SOT-223-DB3; PackageDescription: 3-Lead Plastic Small Outline Transistor (DB) [SOT-223]; Supplier 1: Digi-Key; Supplier Part Number 1: TC1262-2.8VDBTR-ND; Supplier 2: Mouser; Supplier Part Number 2: 579-TC1262-2.8VDBTR; Mounting Technology: Surface Mount; ComponentLink1Description: Manufacturer URL; ComponentLink1URL: http://www.microchip.com/; ComponentLink2Description: Datasheet; ComponentLink2URL: http://ww1.microchip.com/downloads/en/DeviceDoc/21373b.pdf; ComponentLink3Description: Package Specification; ComponentLink3URL: http://www.microchip.com/stellent/groups/techpub_sg/documents/packagingspec/en012702.pdf
footprint SOT-223-DB3_N (SOT223, 4-Leads, Body 6.5x3.5mm, Pitch 2.3mm, Lead Span 7mm, IPC Medium Density)
footprint SOT-223-DB3_L (SOT223, 4-Leads, Body 6.5x3.5mm, Pitch 2.3mm, Lead Span 7mm, IPC High Density)
footprint SOT-223-DB3_M (SOT223, 4-Leads, Body 6.5x3.5mm, Pitch 2.3mm, Lead Span 7mm, IPC Low Density)
pins: 1 VIN (power), 2 GND (power), 3 VOUT (power), 4 GND (power)

## TC1262-2.8VEB
designator U?
500mA Fixed Output CMOS LDO, 3-Pin DDPAK, Extended Temperature; Manufacturer: Microchip; PartNumber: TC1262-2.8VEB; DatasheetVersion: revB, 2002; PackageVersion: revBB, Aug-2009; PackageReference: DDPAK-EB3; PackageDescription: 3-Lead Plastic (EB) [DDPAK]; Mounting Technology: Surface Mount; ComponentLink1Description: Manufacturer URL; ComponentLink1URL: http://www.microchip.com/; ComponentLink2Description: Datasheet; ComponentLink2URL: http://ww1.microchip.com/downloads/en/DeviceDoc/21373b.pdf; ComponentLink3Description: Package Specification; ComponentLink3URL: http://www.microchip.com/stellent/groups/techpub_sg/documents/packagingspec/en012702.pdf
footprint DDPAK-EB3_N (D2-PAK, 4-Leads, Body 9x10.2mm, Pitch 2.54mm, Lead Span 14.9mm, IPC Medium Density)
footprint DDPAK-EB3_L (D2-PAK, 4-Leads, Body 9x10.2mm, Pitch 2.54mm, Lead Span 14.9mm, IPC High Density)
footprint DDPAK-EB3_M (D2-PAK, 4-Leads, Body 9x10.2mm, Pitch 2.54mm, Lead Span 14.9mm, IPC Low Density)
pins: 1 VIN (power), 2 GND (power), 3 VOUT (power), 4 GND (power)

## TC1262-2.8VEBTR
designator U?
500mA Fixed Output CMOS LDO, 3-Pin DDPAK, Extended Temperature, Tape and Reel; Manufacturer: Microchip; PartNumber: TC1262-2.8VEBTR; DatasheetVersion: revB, 2002; PackageVersion: revBB, Aug-2009; PackageReference: DDPAK-EB3; PackageDescription: 3-Lead Plastic (EB) [DDPAK]; Supplier 1: Digi-Key; Supplier Part Number 1: TC1262-2.8VEBTR-ND; Supplier 2: Mouser; Supplier Part Number 2: 579-TC1262-2.8VEBTR; Mounting Technology: Surface Mount; ComponentLink1Description: Manufacturer URL; ComponentLink1URL: http://www.microchip.com/; ComponentLink2Description: Datasheet; ComponentLink2URL: http://ww1.microchip.com/downloads/en/DeviceDoc/21373b.pdf; ComponentLink3Description: Package Specification; ComponentLink3URL: http://www.microchip.com/stellent/groups/techpub_sg/documents/packagingspec/en012702.pdf
footprint DDPAK-EB3_N (D2-PAK, 4-Leads, Body 9x10.2mm, Pitch 2.54mm, Lead Span 14.9mm, IPC Medium Density)
footprint DDPAK-EB3_L (D2-PAK, 4-Leads, Body 9x10.2mm, Pitch 2.54mm, Lead Span 14.9mm, IPC High Density)
footprint DDPAK-EB3_M (D2-PAK, 4-Leads, Body 9x10.2mm, Pitch 2.54mm, Lead Span 14.9mm, IPC Low Density)
pins: 1 VIN (power), 2 GND (power), 3 VOUT (power), 4 GND (power)

## TC1262-3.0VAB
designator U?
500mA Fixed Output CMOS LDO, 3-Pin TO-220, Extended Temperature; Manufacturer: Microchip; PartNumber: TC1262-3.0VAB; DatasheetVersion: revB, 2002; PackageVersion: revBB, Aug-2009; PackageReference: TO-220-AB3; PackageDescription: 3-Lead Plastic Transistor Outline (AB) [TO-220]; Supplier 1: Digi-Key; Supplier Part Number 1: TC1262-3.0VAB-ND; Supplier 2: Farnell; Supplier Part Number 2: 1852180; Supplier 3: Newark; Supplier Part Number 3: 92C5752; Supplier 4: Mouser; Supplier Part Number 4: 579-TC1262-3.0VAB; Mounting Technology: Through Hole; ComponentLink1Description: Manufacturer URL; ComponentLink1URL: http://www.microchip.com/; ComponentLink2Description: Datasheet; ComponentLink2URL: http://ww1.microchip.com/downloads/en/DeviceDoc/21373b.pdf; ComponentLink3Description: Package Specification; ComponentLink3URL: http://www.microchip.com/stellent/groups/techpub_sg/documents/packagingspec/en012702.pdf
footprint TO-220-AB3 (TO, Thru-Hole, Vertical, Heatsink Mounted; 3 In-Line Leads; Pitch 2.54 mm)
pins: 1 VIN (power), 2 GND (power), 3 VOUT (power)

## TC1262-3.0VDB
designator U?
Fixed Output CMOS LDO, Output Current 500 mA, Max Input Voltage 6 V, Output Voltage 3 V, -40 to 125 degC, 3-pin SOT-223 (DB3), Tube; Manufacturer: Microchip; PartNumber: TC1262-3.0VDB; DatasheetVersion: Rev. B; PackageVersion: C04-032B; PackageReference: SOT-223-DB3; PackageDescription: 3-Lead Plastic Small Outline Transistor, 6.5 x 3.5 mm Body, 2.3 mm Pitch; Supplier 1: Digi-Key; Supplier Part Number 1: TC1262-3.0VDB-ND; Supplier 2: Farnell; Supplier Part Number 2: 1852181; Supplier 3: Newark; Supplier Part Number 3: 53R0369; Supplier 4: Mouser; Supplier Part Number 4: 579-TC1262-3.0VDB; Mounting Technology: Surface Mount; ComponentLink1Description: Manufacturer URL; ComponentLink1URL: http://www.microchip.com; ComponentLink2Description: Datasheet; ComponentLink2URL: http://ww1.microchip.com/downloads/en/DeviceDoc/21373b.pdf; ComponentLink3Description: Package Specification; ComponentLink3URL: http://www.microchip.com/stellent/groups/techpub_sg/documents/packagingspec/en012702.pdf; ComponentLink4Description: Product URL; ComponentLink4URL: http://www.microchip.com/TC1262
footprint MCHP-SOT-223-DB3_N (SOT223, 3-Leads, Body 6.5x3.5mm, Pitch 2.3mm, IPC Medium Density)
footprint MCHP-SOT-223-DB3_L (SOT223, 3-Leads, Body 6.5x3.5mm, Pitch 2.3mm, IPC High Density)
footprint MCHP-SOT-223-DB3_M (SOT223, 3-Leads, Body 6.5x3.5mm, Pitch 2.3mm, IPC Low Density)
pins: 1 VIN (power) "Unregulated supply input.", 2 GND (power) "Ground terminal.", 3 VOUT (power) "Regulated voltage output.", 4 GND (power) "Ground terminal."

## TC1262-3.0VDBTR
designator U?
500mA Fixed Output CMOS LDO, 3-Pin SOT-223, Extended Temperature, Tape and Reel; Manufacturer: Microchip; PartNumber: TC1262-3.0VDBTR; DatasheetVersion: revB, 2002; PackageVersion: revBB, Aug-2009; PackageReference: SOT-223-DB3; PackageDescription: 3-Lead Plastic Small Outline Transistor (DB) [SOT-223]; Supplier 1: Digi-Key; Supplier Part Number 1: TC1262-3.0VDBTR-ND; Supplier 2: Mouser; Supplier Part Number 2: 579-TC1262-3.0VDBTR; Mounting Technology: Surface Mount; ComponentLink1Description: Manufacturer URL; ComponentLink1URL: http://www.microchip.com/; ComponentLink2Description: Datasheet; ComponentLink2URL: http://ww1.microchip.com/downloads/en/DeviceDoc/21373b.pdf; ComponentLink3Description: Package Specification; ComponentLink3URL: http://www.microchip.com/stellent/groups/techpub_sg/documents/packagingspec/en012702.pdf
footprint SOT-223-DB3_N (SOT223, 4-Leads, Body 6.5x3.5mm, Pitch 2.3mm, Lead Span 7mm, IPC Medium Density)
footprint SOT-223-DB3_L (SOT223, 4-Leads, Body 6.5x3.5mm, Pitch 2.3mm, Lead Span 7mm, IPC High Density)
footprint SOT-223-DB3_M (SOT223, 4-Leads, Body 6.5x3.5mm, Pitch 2.3mm, Lead Span 7mm, IPC Low Density)
pins: 1 VIN (power), 2 GND (power), 3 VOUT (power), 4 GND (power)

## TC1262-3.0VEB
designator U?
500mA Fixed Output CMOS LDO, 3-Pin DDPAK, Extended Temperature; Manufacturer: Microchip; PartNumber: TC1262-3.0VEB; DatasheetVersion: revB, 2002; PackageVersion: revBB, Aug-2009; PackageReference: DDPAK-EB3; PackageDescription: 3-Lead Plastic (EB) [DDPAK]; Mounting Technology: Surface Mount; ComponentLink1Description: Manufacturer URL; ComponentLink1URL: http://www.microchip.com/; ComponentLink2Description: Datasheet; ComponentLink2URL: http://ww1.microchip.com/downloads/en/DeviceDoc/21373b.pdf; ComponentLink3Description: Package Specification; ComponentLink3URL: http://www.microchip.com/stellent/groups/techpub_sg/documents/packagingspec/en012702.pdf
footprint DDPAK-EB3_N (D2-PAK, 4-Leads, Body 9x10.2mm, Pitch 2.54mm, Lead Span 14.9mm, IPC Medium Density)
footprint DDPAK-EB3_L (D2-PAK, 4-Leads, Body 9x10.2mm, Pitch 2.54mm, Lead Span 14.9mm, IPC High Density)
footprint DDPAK-EB3_M (D2-PAK, 4-Leads, Body 9x10.2mm, Pitch 2.54mm, Lead Span 14.9mm, IPC Low Density)
pins: 1 VIN (power), 2 GND (power), 3 VOUT (power), 4 GND (power)

## TC1262-3.0VEBTR
designator U?
500mA Fixed Output CMOS LDO, 3-Pin DDPAK, Extended Temperature, Tape and Reel; Manufacturer: Microchip; PartNumber: TC1262-3.0VEBTR; DatasheetVersion: revB, 2002; PackageVersion: revBB, Aug-2009; PackageReference: DDPAK-EB3; PackageDescription: 3-Lead Plastic (EB) [DDPAK]; Supplier 1: Digi-Key; Supplier Part Number 1: TC1262-3.0VEBTR-ND; Supplier 2: Mouser; Supplier Part Number 2: 579-TC1262-3.0VEBTR; Mounting Technology: Surface Mount; ComponentLink1Description: Manufacturer URL; ComponentLink1URL: http://www.microchip.com/; ComponentLink2Description: Datasheet; ComponentLink2URL: http://ww1.microchip.com/downloads/en/DeviceDoc/21373b.pdf; ComponentLink3Description: Package Specification; ComponentLink3URL: http://www.microchip.com/stellent/groups/techpub_sg/documents/packagingspec/en012702.pdf
footprint DDPAK-EB3_N (D2-PAK, 4-Leads, Body 9x10.2mm, Pitch 2.54mm, Lead Span 14.9mm, IPC Medium Density)
footprint DDPAK-EB3_L (D2-PAK, 4-Leads, Body 9x10.2mm, Pitch 2.54mm, Lead Span 14.9mm, IPC High Density)
footprint DDPAK-EB3_M (D2-PAK, 4-Leads, Body 9x10.2mm, Pitch 2.54mm, Lead Span 14.9mm, IPC Low Density)
pins: 1 VIN (power), 2 GND (power), 3 VOUT (power), 4 GND (power)

## TC1262-3.3VAB
designator U?
500mA Fixed Output CMOS LDO, 3-Pin TO-220, Extended Temperature; Manufacturer: Microchip; PartNumber: TC1262-3.3VAB; DatasheetVersion: revB, 2002; PackageVersion: revBB, Aug-2009; PackageReference: TO-220-AB3; PackageDescription: 3-Lead Plastic Transistor Outline (AB) [TO-220]; Supplier 1: Digi-Key; Supplier Part Number 1: TC1262-3.3VAB-ND; Supplier 2: Farnell; Supplier Part Number 2: 1852182; Supplier 3: Newark; Supplier Part Number 3: 92C5755; Supplier 4: Mouser; Supplier Part Number 4: 579-TC1262-3.3VAB; Mounting Technology: Through Hole; ComponentLink1Description: Manufacturer URL; ComponentLink1URL: http://www.microchip.com/; ComponentLink2Description: Datasheet; ComponentLink2URL: http://ww1.microchip.com/downloads/en/DeviceDoc/21373b.pdf; ComponentLink3Description: Package Specification; ComponentLink3URL: http://www.microchip.com/stellent/groups/techpub_sg/documents/packagingspec/en012702.pdf
footprint TO-220-AB3 (TO, Thru-Hole, Vertical, Heatsink Mounted; 3 In-Line Leads; Pitch 2.54 mm)
pins: 1 VIN (power), 2 GND (power), 3 VOUT (power)

## TC1262-3.3VDB
designator U?
500mA Fixed Output CMOS LDO, 3-Pin SOT-223, Extended Temperature; Manufacturer: Microchip; PartNumber: TC1262-3.3VDB; DatasheetVersion: revB, 2002; PackageVersion: revBB, Aug-2009; PackageReference: SOT-223-DB3; PackageDescription: 3-Lead Plastic Small Outline Transistor (DB) [SOT-223]; Supplier 1: Digi-Key; Supplier Part Number 1: TC1262-3.3VDB-ND; Supplier 2: Farnell; Supplier Part Number 2: 1852183; Supplier 3: Newark; Supplier Part Number 3: 53R0370; Supplier 4: Mouser; Supplier Part Number 4: 579-TC1262-3.3VDB; Mounting Technology: Surface Mount; ComponentLink1Description: Manufacturer URL; ComponentLink1URL: http://www.microchip.com/; ComponentLink2Description: Datasheet; ComponentLink2URL: http://ww1.microchip.com/downloads/en/DeviceDoc/21373b.pdf; ComponentLink3Description: Package Specification; ComponentLink3URL: http://www.microchip.com/stellent/groups/techpub_sg/documents/packagingspec/en012702.pdf
footprint SOT-223-DB3_N (SOT223, 4-Leads, Body 6.5x3.5mm, Pitch 2.3mm, Lead Span 7mm, IPC Medium Density)
footprint SOT-223-DB3_L (SOT223, 4-Leads, Body 6.5x3.5mm, Pitch 2.3mm, Lead Span 7mm, IPC High Density)
footprint SOT-223-DB3_M (SOT223, 4-Leads, Body 6.5x3.5mm, Pitch 2.3mm, Lead Span 7mm, IPC Low Density)
pins: 1 VIN (power), 2 GND (power), 3 VOUT (power), 4 GND (power)

## TC1262-3.3VDBTR
designator U?
500mA Fixed Output CMOS LDO, 3-Pin SOT-223, Extended Temperature, Tape and Reel; Manufacturer: Microchip; PartNumber: TC1262-3.3VDBTR; DatasheetVersion: revB, 2002; PackageVersion: revBB, Aug-2009; PackageReference: SOT-223-DB3; PackageDescription: 3-Lead Plastic Small Outline Transistor (DB) [SOT-223]; Supplier 1: Digi-Key; Supplier Part Number 1: TC1262-3.3VDBTR-ND; Supplier 2: Digi-Key; Supplier Part Number 2: TC1262-3.3VDBCT-ND; Supplier 3: Digi-Key; Supplier Part Number 3: TC1262-3.3VDBDKR-ND; Supplier 4: Farnell; Supplier Part Number 4: 1296594RL; Supplier 5: Farnell; Supplier Part Number 5: 1296594; Supplier 6: Newark; Supplier Part Number 6: 29M8603; Supplier 7: Mouser; Supplier Part Number 7: 579-TC1262-3.3VDBTR; Mounting Technology: Surface Mount; ComponentLink1Description: Manufacturer URL; ComponentLink1URL: http://www.microchip.com/; ComponentLink2Description: Datasheet; ComponentLink2URL: http://ww1.microchip.com/downloads/en/DeviceDoc/21373b.pdf; ComponentLink3Description: Package Specification; ComponentLink3URL: http://www.microchip.com/stellent/groups/techpub_sg/documents/packagingspec/en012702.pdf
footprint SOT-223-DB3_N (SOT223, 4-Leads, Body 6.5x3.5mm, Pitch 2.3mm, Lead Span 7mm, IPC Medium Density)
footprint SOT-223-DB3_L (SOT223, 4-Leads, Body 6.5x3.5mm, Pitch 2.3mm, Lead Span 7mm, IPC High Density)
footprint SOT-223-DB3_M (SOT223, 4-Leads, Body 6.5x3.5mm, Pitch 2.3mm, Lead Span 7mm, IPC Low Density)
pins: 1 VIN (power), 2 GND (power), 3 VOUT (power), 4 GND (power)

## TC1262-3.3VEB
designator U?
500mA Fixed Output CMOS LDO, 3-Pin DDPAK, Extended Temperature; Manufacturer: Microchip; PartNumber: TC1262-3.3VEB; DatasheetVersion: revB, 2002; PackageVersion: revBB, Aug-2009; PackageReference: DDPAK-EB3; PackageDescription: 3-Lead Plastic (EB) [DDPAK]; Mounting Technology: Surface Mount; ComponentLink1Description: Manufacturer URL; ComponentLink1URL: http://www.microchip.com/; ComponentLink2Description: Datasheet; ComponentLink2URL: http://ww1.microchip.com/downloads/en/DeviceDoc/21373b.pdf; ComponentLink3Description: Package Specification; ComponentLink3URL: http://www.microchip.com/stellent/groups/techpub_sg/documents/packagingspec/en012702.pdf
footprint DDPAK-EB3_N (D2-PAK, 4-Leads, Body 9x10.2mm, Pitch 2.54mm, Lead Span 14.9mm, IPC Medium Density)
footprint DDPAK-EB3_L (D2-PAK, 4-Leads, Body 9x10.2mm, Pitch 2.54mm, Lead Span 14.9mm, IPC High Density)
footprint DDPAK-EB3_M (D2-PAK, 4-Leads, Body 9x10.2mm, Pitch 2.54mm, Lead Span 14.9mm, IPC Low Density)
pins: 1 VIN (power), 2 GND (power), 3 VOUT (power), 4 GND (power)